# Altium schematic symbol library SHARP_10.SchLib: 1 symbol
Pins are listed as number, name and electrical type; pins without a type are passive.

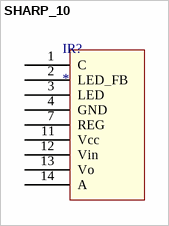
[diagram p0: symbol SHARP_10]

## SHARP_10
designator IR?
footprint sharp_10
pins: 1 C, 2 LED_FB, 3 LED, 4 GND, 7 REG, 11 Vcc, 12 Vin, 13 Vo, 14 A